# Altium footprint library PCB1.PcbLib: 43 footprints (part 2 of 3)
Each footprint in its own frame and in the unit in brackets; x right, y up, seen from the top. Pads: shape width x height; smd on the part's side, far side on the other; paste and mask are expansions set on the pad; w line width, h text height; cw(c..) or ccw(c..) is an arc to the next point about the centre after c.
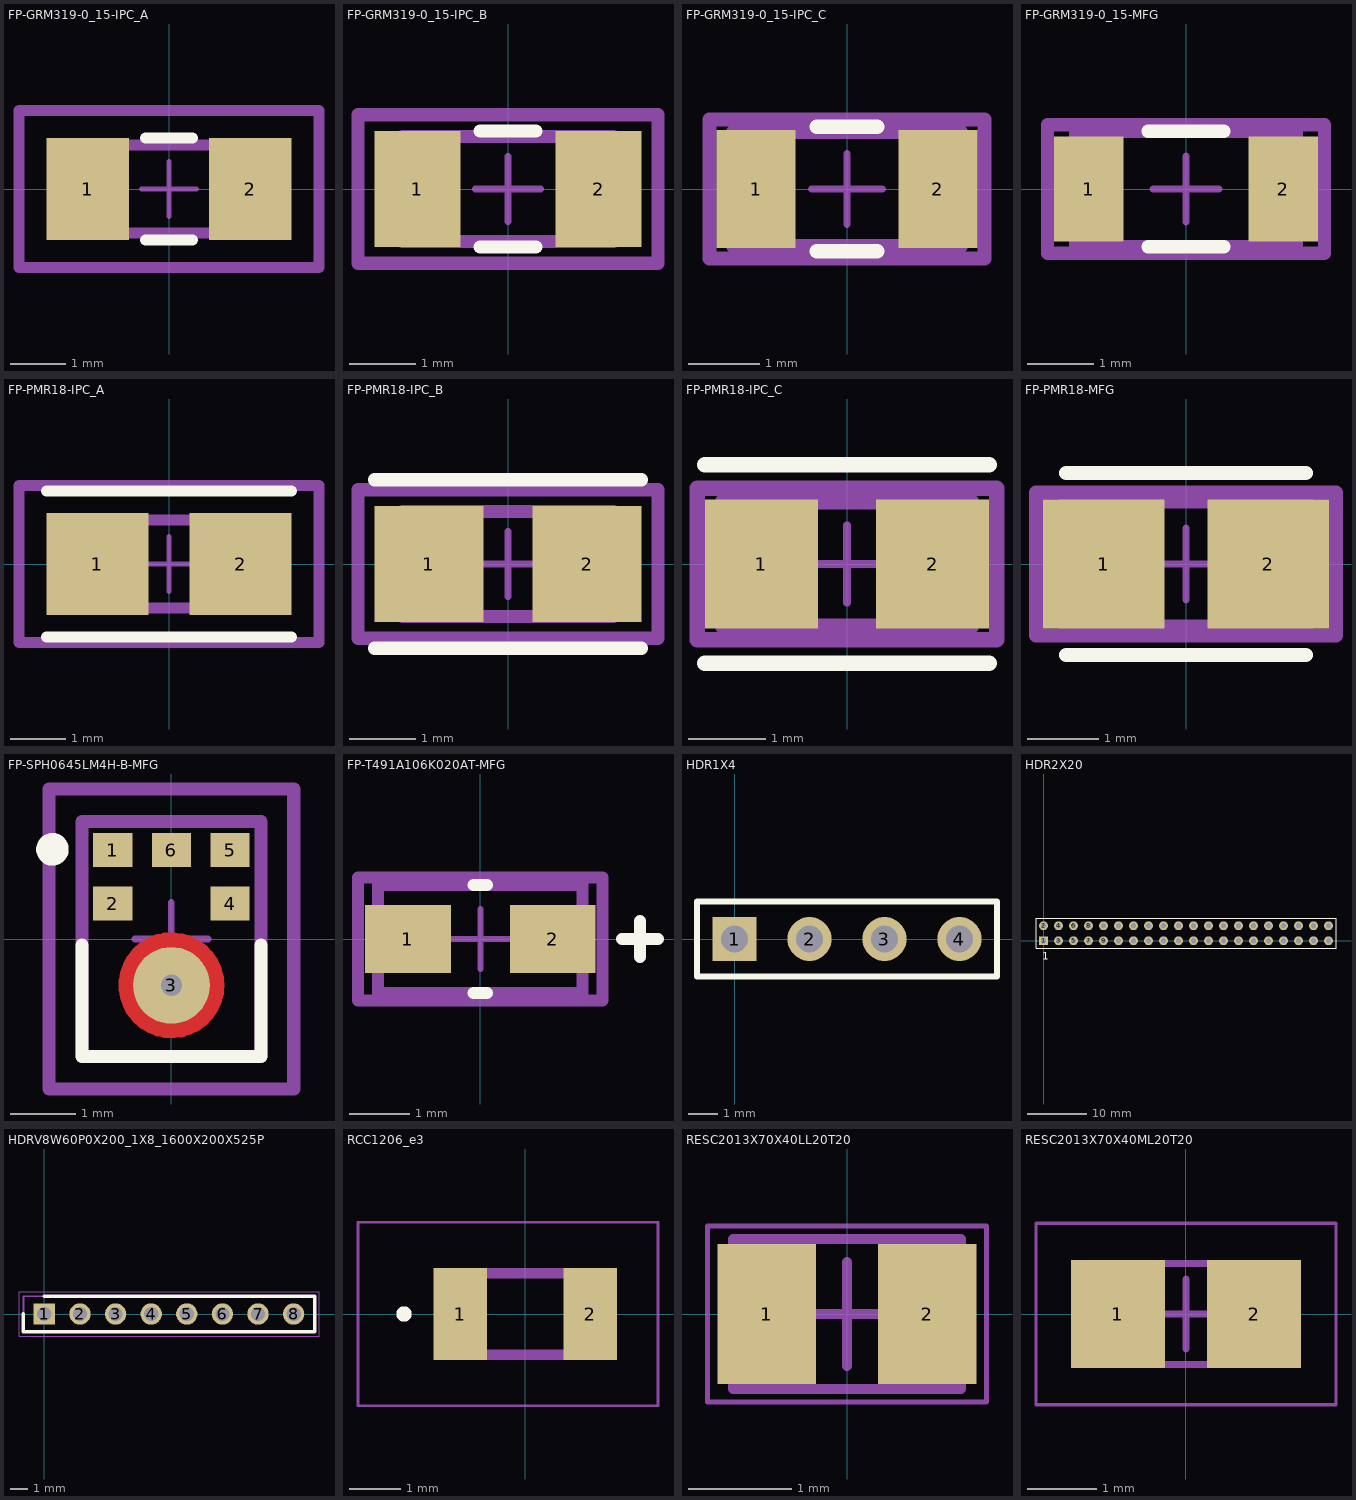
[diagram p1: the footprints below, top view; thin cyan lines are the x and y axes]

## FP-GRM319-0_15-IPC_A [mm]
pads (2):
  rect 1.506x1.858 smd paste+0 mask+0: 1(-1.476,0) 2(1.476,0)
Top Overlay:
  lines w0.2: -0.423,-0.929 0.423,-0.929 ; -0.423,0.929 0.423,0.929
Top Assembly:
  lines w0.2: -2.729,-1.429 -2.729,1.429 2.729,1.429 2.729,-1.429 -2.729,-1.429
  text ".Designator" at 0,0.188 h1
Top 3D Body:
  lines w0.2: -1.6,-0.8 -1.6,0.8 1.6,0.8 1.6,-0.8 -1.6,-0.8
Top Courtyard:
  lines w0.2: -2.729,-1.429 -2.729,1.429 2.729,1.429 2.729,-1.429 -2.729,-1.429
Top Component Center:
  lines w0.1: -0.5,0 0.5,0 ; 0,-0.5 0,0.5
3D body "Cap_Murata_GRM3195C1H273JA01D_eec.STEP": height 0.25, standoff 0, extent -2.729,-1.429 2.729,1.429

## FP-GRM319-0_15-IPC_B [mm]
pads (2):
  rect 1.306x1.758 smd paste+0 mask+0: 1(-1.376,0) 2(1.376,0)
Top Overlay:
  lines w0.2: -0.423,-0.879 0.423,-0.879 ; -0.423,0.879 0.423,0.879
Top Assembly:
  lines w0.2: -2.279,-1.129 -2.279,1.129 2.279,1.129 2.279,-1.129 -2.279,-1.129
  text ".Designator" at 0,0.188 h1
Top 3D Body:
  lines w0.2: -1.6,-0.8 -1.6,0.8 1.6,0.8 1.6,-0.8 -1.6,-0.8
Top Courtyard:
  lines w0.2: -2.279,-1.129 -2.279,1.129 2.279,1.129 2.279,-1.129 -2.279,-1.129
Top Component Center:
  lines w0.1: -0.5,0 0.5,0 ; 0,-0.5 0,0.5
3D body "Cap_Murata_GRM3195C1H273JA01D_eec.STEP": height 0.25, standoff 0, extent -2.279,-1.129 2.279,1.129

## FP-GRM319-0_15-IPC_C [mm]
pads (2):
  rect 1.106x1.658 smd paste+0 mask+0: 1(-1.276,0) 2(1.276,0)
Top Overlay:
  lines w0.2: -0.423,-0.875 0.423,-0.875 ; -0.423,0.875 0.423,0.875
Top Assembly:
  lines w0.2: -1.929,-0.975 -1.929,0.975 1.929,0.975 1.929,-0.975 -1.929,-0.975
  text ".Designator" at 0,0.188 h1
Top 3D Body:
  lines w0.2: -1.6,-0.8 -1.6,0.8 1.6,0.8 1.6,-0.8 -1.6,-0.8
Top Courtyard:
  lines w0.2: -1.929,-0.975 -1.929,0.975 1.929,0.975 1.929,-0.975 -1.929,-0.975
Top Component Center:
  lines w0.1: -0.5,0 0.5,0 ; 0,-0.5 0,0.5
3D body "Cap_Murata_GRM3195C1H273JA01D_eec.STEP": height 0.25, standoff 0, extent -1.929,-0.975 1.929,0.975

## FP-GRM319-0_15-MFG [mm]
pads (2):
  rect 1.05x1.6 smd paste+0 mask+0: 1(-1.475,0) 2(1.475,0)
Top Overlay:
  lines w0.2: -0.575,-0.875 0.575,-0.875 ; -0.575,0.875 0.575,0.875
Top Assembly:
  lines w0.2: -2.1,-0.975 2.1,-0.975 2.1,0.975 -2.1,0.975 -2.1,-0.975
  text ".Designator" at 0,0.188 h1
Top 3D Body:
  lines w0.2: -1.675,-0.875 1.675,-0.875 1.675,0.875 -1.675,0.875 -1.675,-0.875
Top Courtyard:
  lines w0.2: -2.1,-0.975 2.1,-0.975 2.1,0.975 -2.1,0.975 -2.1,-0.975
Top Component Center:
  lines w0.1: -0.5,0 0.5,0 ; 0,-0.5 0,0.5
3D body "Cap_Murata_GRM3195C1H273JA01D_eec.STEP": height 0.25, standoff 0, extent -2.1,-0.975 2.1,0.975

## FP-PMR18-IPC_A [mm]
pads (2):
  rect 1.856x1.858 smd paste+0 mask+0: 1(-1.301,0) 2(1.301,0)
Top Overlay:
  lines w0.2: -2.229,-1.329 2.229,-1.329 ; -2.229,1.329 2.229,1.329
Top Assembly:
  lines w0.2: -2.729,-1.429 -2.729,1.429 2.729,1.429 2.729,-1.429 -2.729,-1.429
  text ".Designator" at 0,0.188 h1
Top 3D Body:
  lines w0.2: -1.6,-0.8 -1.6,0.8 1.6,0.8 1.6,-0.8 -1.6,-0.8
Top Courtyard:
  lines w0.2: -2.729,-1.429 -2.729,1.429 2.729,1.429 2.729,-1.429 -2.729,-1.429
Top Component Center:
  lines w0.1: -0.5,0 0.5,0 ; 0,-0.5 0,0.5
3D body "Res_Rohm_Semiconductor_PMR18EZPJ000_eec.STEP": height 0.25, standoff 0, extent -2.729,-1.429 2.729,1.429

## FP-PMR18-IPC_B [mm]
pads (2):
  rect 1.656x1.758 smd paste+0 mask+0: 1(-1.201,0) 2(1.201,0)
Top Overlay:
  lines w0.2: -2.029,-1.279 2.029,-1.279 ; -2.029,1.279 2.029,1.279
Top Assembly:
  lines w0.2: -2.279,-1.129 -2.279,1.129 2.279,1.129 2.279,-1.129 -2.279,-1.129
  text ".Designator" at 0,0.188 h1
Top 3D Body:
  lines w0.2: -1.6,-0.8 -1.6,0.8 1.6,0.8 1.6,-0.8 -1.6,-0.8
Top Courtyard:
  lines w0.2: -2.279,-1.129 -2.279,1.129 2.279,1.129 2.279,-1.129 -2.279,-1.129
Top Component Center:
  lines w0.1: -0.5,0 0.5,0 ; 0,-0.5 0,0.5
3D body "Res_Rohm_Semiconductor_PMR18EZPJ000_eec.STEP": height 0.25, standoff 0, extent -2.279,-1.129 2.279,1.129

## FP-PMR18-IPC_C [mm]
pads (2):
  rect 1.456x1.658 smd paste+0 mask+0: 1(-1.101,0) 2(1.101,0)
Top Overlay:
  lines w0.2: -1.829,-1.275 1.829,-1.275 ; -1.829,1.275 1.829,1.275
Top Assembly:
  lines w0.2: -1.929,-0.975 -1.929,0.975 1.929,0.975 1.929,-0.975 -1.929,-0.975
  text ".Designator" at 0,0.188 h1
Top 3D Body:
  lines w0.2: -1.6,-0.8 -1.6,0.8 1.6,0.8 1.6,-0.8 -1.6,-0.8
Top Courtyard:
  lines w0.2: -1.929,-0.975 -1.929,0.975 1.929,0.975 1.929,-0.975 -1.929,-0.975
Top Component Center:
  lines w0.1: -0.5,0 0.5,0 ; 0,-0.5 0,0.5
3D body "Res_Rohm_Semiconductor_PMR18EZPJ000_eec.STEP": height 0.25, standoff 0, extent -1.929,-0.975 1.929,0.975

## FP-PMR18-MFG [mm]
pads (2):
  rect 1.7x1.8 smd paste+0 mask+0: 1(-1.15,0) 2(1.15,0)
Top Overlay:
  lines w0.2: -1.675,-1.275 1.675,-1.275 ; -1.675,1.275 1.675,1.275
Top Assembly:
  lines w0.2: -2.1,-1 2.1,-1 2.1,1 -2.1,1 -2.1,-1
  text ".Designator" at 0,0.188 h1
Top 3D Body:
  lines w0.2: -1.675,-0.875 1.675,-0.875 1.675,0.875 -1.675,0.875 -1.675,-0.875
Top Courtyard:
  lines w0.2: -2.1,-1 2.1,-1 2.1,1 -2.1,1 -2.1,-1
Top Component Center:
  lines w0.1: -0.5,0 0.5,0 ; 0,-0.5 0,0.5
3D body "Res_Rohm_Semiconductor_PMR18EZPJ000_eec.STEP": height 0.25, standoff 0, extent -2.1,-1 2.1,1

## FP-SPH0645LM4H-B-MFG [mm]
pads (7):
  rect 0.6x0.522 smd paste+0 mask+0: 1(-0.9,1.364) 2(-0.9,0.542) 4(0.9,0.542) 5(0.9,1.364) 6(0,1.364)
  round 1.177 smd paste-1000 mask-1000: 3(0,-0.71)
  round 0.325 hole 0.325 unplated paste-1000 mask+0: ""(0,-0.71)
Top Layer:
  circle w0.3: c0,-0.71 r0.662
Top Overlay:
  circle w0.25: c-1.825,1.375 r0.125
  lines w0.2: -1.375,-0.094 -1.375,-1.8 1.375,-1.8 1.375,-0.094
Top Paste:
  region: -0.425,-0.424 -0.463,-0.49 -0.507,-0.634 -0.507,-0.786 -0.463,-0.93 -0.425,-0.996 -0.64,-1.21 -0.724,-1.103 -0.812,-0.846 -0.812,-0.574 -0.724,-0.317 -0.64,-0.21
  region: 0.425,-0.996 0.463,-0.93 0.507,-0.786 0.507,-0.634 0.463,-0.49 0.425,-0.424 0.64,-0.21 0.724,-0.317 0.812,-0.574 0.812,-0.846 0.724,-1.103 0.64,-1.21
  region: 0.286,-0.285 0.22,-0.247 0.076,-0.203 -0.076,-0.203 -0.22,-0.247 -0.286,-0.285 -0.5,-0.07 -0.393,0.014 -0.136,0.102 0.136,0.102 0.393,0.014 0.5,-0.07
  region: 0.286,-1.135 0.22,-1.173 0.076,-1.217 -0.076,-1.217 -0.22,-1.173 -0.286,-1.135 -0.5,-1.35 -0.393,-1.434 -0.136,-1.522 0.136,-1.522 0.393,-1.434 0.5,-1.35
Top Solder:
  circle w0.3: c0,-0.71 r0.662
Top Assembly:
  lines w0.2: -1.875,-2.3 1.875,-2.3 1.875,2.3 -1.875,2.3 -1.875,-2.3
  text ".Designator" at 0,0.188 h1
Top 3D Body:
  lines w0.2: -1.375,-1.8 1.375,-1.8 1.375,1.8 -1.375,1.8 -1.375,-1.8
Top Courtyard:
  lines w0.2: -1.875,-2.3 1.875,-2.3 1.875,2.3 -1.875,2.3 -1.875,-2.3
Top Component Center:
  lines w0.1: -0.563,0 0.563,0 ; 0,-0.563 0,0.563

## FP-T491A106K020AT-MFG [mm]
pads (2):
  rect 1.42x1.13 smd paste+0 mask+0: 1(-1.2,0) 2(1.2,0)
Top Overlay:
  lines w0.2: -0.115,-0.9 0.115,-0.9 ; -0.115,0.9 0.115,0.9 ; 2.35,0 2.95,0 ; 2.65,-0.3 2.65,0.3
Top Assembly:
  lines w0.2: -2.03,-1.02 2.03,-1.02 2.03,1.02 -2.03,1.02 -2.03,-1.02
  text ".Designator" at 0,0 h1
Top 3D Body:
  lines w0.2: -1.7,-0.9 1.7,-0.9 1.7,0.9 -1.7,0.9 -1.7,-0.9
Top Courtyard:
  lines w0.2: -2.03,-1.02 2.03,-1.02 2.03,1.02 -2.03,1.02 -2.03,-1.02
Top Component Center:
  lines w0.1: -0.5,0 0.5,0 ; 0,-0.5 0,0.5
3D body "Cap_KEMET_T491A106K020AT_eec.STEP": height 0.25, standoff 0, extent -2.03,-1.02 2.03,1.02

## HDR1X4 [mm] "Connector; Header; 4 Position"
pads (4):
  rect 1.5x1.5 hole 0.9: 1(0,0)
  round 1.5 hole 0.9: 2(2.54,0) 3(5.08,0) 4(7.62,0)
Top Overlay:
  lines w0.2: -1.27,-1.27 8.89,-1.27 8.89,1.27 -1.27,1.27 -1.27,-1.27

## HDR2X20 [mm] "Connector; Header; 20x2 Position"
height 1.1
pads (40):
  rect 1.5x1.5 hole 0.9: 1(0,0)
  round 1.5 hole 0.9: 2(0,2.54) 3(2.54,0) 4(2.54,2.54) 5(5.08,0) 6(5.08,2.54) 7(7.62,0) 8(7.62,2.54) 9(10.16,0) 10(10.16,2.54) 11(12.7,0) 12(12.7,2.54) 13(15.24,0) 14(15.24,2.54) 15(17.78,0) 16(17.78,2.54) 17(20.32,0) 18(20.32,2.54) 19(22.86,0) 20(22.86,2.54) 21(25.4,0) 22(25.4,2.54) 23(27.94,0) 24(27.94,2.54) 25(30.48,0) 26(30.48,2.54) 27(33.02,0) 28(33.02,2.54) 29(35.56,0) 30(35.56,2.54) 31(38.1,0) 32(38.1,2.54) 33(40.64,0) 34(40.64,2.54) 35(43.18,0) 36(43.18,2.54) 37(45.72,0) 38(45.72,2.54) 39(48.26,0) 40(48.26,2.54)
Top Overlay:
  lines w0.2: -1.27,-1.27 -1.27,3.81 49.53,3.81 49.53,-1.27 -1.27,-1.27
  text "1" at -0.23,-3.21 h1.27

## HDRV8W60P0X200_1X8_1600X200X525P [mm]
pads (8):
  rect 1.2x1.2 hole 0.8: 1(0,0)
  round 1.2 hole 0.8: 2(2,0) 3(4,0) 4(6,0) 5(8,0) 6(10,0) 7(12,0) 8(14,0)
Top Overlay:
  lines w0.2: -1.175,0 -1.175,-1 15.175,-1 15.175,1 0,1
Top Assembly:
  lines w0.1: -1.175,-1 15.175,-1 15.175,1 -1.175,1 -1.175,-1
  text "'.Designator'" at -0.9,-0.612 h1
Top 3D Body:
  lines w0.1: -1.175,-1 15.175,-1 15.175,1 -1.175,1 -1.175,-1
Top Courtyard:
  lines w0.05: -1.425,-1.25 15.425,-1.25 15.425,1.25 -1.425,1.25 -1.425,-1.25
3D body "M22-2010805.stp": height 5.25, standoff -3.65, extent -1,-1 15,1

## RCC1206_e3 [mm]
pads (2):
  rect 1.05x1.8 smd: 1(-1.275,0) 2(1.275,0)
Top Overlay:
  circle w0.2: c-2.375,0 r0.05
Top Assembly:
  lines w0.2: -1.6,-0.8 -1.6,0.8 1.6,0.8 1.6,-0.8 -1.6,-0.8
  text "'.Designator'" at -1.4,-0.412 h1
Top 3D Body:
  lines w0.2: -1.6,-0.8 -1.6,0.8 1.6,0.8 1.6,-0.8 -1.6,-0.8
Top Courtyard:
  lines w0.05: -3.275,-1.8 -3.275,1.8 2.6,1.8 2.6,-1.8 -3.275,-1.8
3D body "RCC12064K70FKEA.stp": height 0.55, standoff 0, extent -1.6,-0.8 1.6,0.8

## RESC2013X70X40LL20T20 [mm] "Chip Resistor, 2-Leads, Body 2.00x1.25mm, IPC High Density"
height 0.7
pads (2):
  rect 0.95x1.35 smd: 1(-0.775,0) 2(0.775,0)
Top Assembly:
  lines w0.1: -1.1,-0.725 -1.1,0.725 1.1,0.725 1.1,-0.725 -1.1,-0.725
  text "'.Designator'" at -0.95,-0.387 h1
Top 3D Body:
  lines w0.1: -1.1,-0.725 -1.1,0.725 1.1,0.725 1.1,-0.725 -1.1,-0.725
Top Courtyard:
  lines w0.05: -1.35,-0.85 -1.35,0.85 1.35,0.85 1.35,-0.85 -1.35,-0.85
  lines w0.1: -0.5,0 0.5,0 ; 0,-0.5 0,0.5
3D body: height 0.7, standoff 0, extent -0.7,-0.725 0.7,0.725
3D body: height 0.7, standoff 0, extent -1.1,-0.725 -0.7,0.725
3D body: height 0.7, standoff 0, extent 0.7,-0.725 1.1,0.725

## RESC2013X70X40ML20T20 [mm] "Chip Resistor, 2-Leads, Body 2.00x1.25mm, IPC Low Density"
height 0.7
pads (2):
  rect 1.35x1.55 smd: 1(-0.975,0) 2(0.975,0)
Top 3D Body:
  lines w0.1: -1.1,-0.725 -1.1,0.725 1.1,0.725 1.1,-0.725 -1.1,-0.725
Top Courtyard:
  lines w0.05: -2.15,-1.3 -2.15,1.3 2.15,1.3 2.15,-1.3 -2.15,-1.3
  lines w0.1: -0.5,0 0.5,0 ; 0,-0.5 0,0.5
3D body: height 0.7, standoff 0, extent -0.7,-0.725 0.7,0.725
3D body: height 0.7, standoff 0, extent -1.1,-0.725 -0.7,0.725
3D body: height 0.7, standoff 0, extent 0.7,-0.725 1.1,0.725